# Altium schematic symbol library Schlib1.SchLib: 2 symbols
Pins are listed as number, name and electrical type; pins without a type are passive.

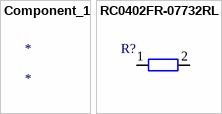
[diagram p0: symbols Component_1 to RC0402FR-07732RL]

## Component_1
designator *

## RC0402FR-07732RL
designator R?
Thick Film Resistors - SMD 732 OHM 1%; Manufacturer 1: Yageo; Manufacturer Part Number 1: RC0402FR-07732RL; Resistance: 732R; Temperature Coefficient: 100ppm/°C; Power Rating: 62.5mW; Voltage Rating: 50V; Max Power Dissipation: 63mW; Supplier 1: Digi-Key; Stock 1: 265983; Pricing 1: 1=0,10000, 10=0,01600, 100=0,00640, 1000=0,00289, 2500=0,00251, 5000=0,00207 (USD); RoHS: Yes; Case/Package: 0402; Contact Plating: Tin,Matte; Case Code (Imperial): 0402; Case Code (Metric): 1005; Min Operating Temperature: -55°C; Max Operating Temperature: 155°C; Tolerance: 1%; Composition: Thick Film; Packaging: Tape and Reel; Number of Terminations: 2; Termination: SMD/SMT; Military Standard: Not; Voltage Rating (DC): 50V; Features: Moisture Resistant; Length: 1mm; Height: 0.016inch; Width: 0.02inch; Depth: 0.5mm; ComponentLink1URL: https://datasheet.ciiva.com/28388/pyu-rc0402-51-rohs-l-6-28388230.pdf?src-supplier=Avnet+Europe; ComponentLink1Description: https://datasheet.ciiva.com/28388/pyu-rc0402-51-rohs-l-6-28388230.pdf?src-supplier=Avnet+Europe; ComponentLink2URL: https://datasheet.ciiva.com/5595/pyu-rc0402-51-rohs-l-6-r-8721-5595967.pdf?src-supplier=Mouser; ComponentLink2Description: https://datasheet.ciiva.com/5595/pyu-rc0402-51-rohs-l-6-r-8721-5595967.pdf?src-supplier=Mouser; Supplier Part Number 1: YAG3225CT-ND
pins: 1, 2